# Altium schematic symbol library FT232RL.SchLib: 1 symbol
Pins are listed as number, name and electrical type; pins without a type are passive.

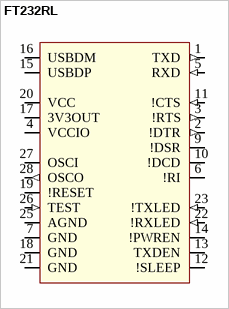
[diagram p0: symbol FT232RL]

## FT232RL
designator IC?  (value not drawn)
Value: *
footprint SSOP28-LD
pins: 1 TXD (out), 2 !DTR (out), 3 !RTS (out), 4 VCCIO (power), 5 RXD (in), 6 !RI, 7 GND (power), 9 !DSR, 10 !DCD, 11 !CTS (in), 12 !SLEEP, 13 TXDEN, 14 !PWREN, 15 USBDP (io), 16 USBDM (io), 17 3V3OUT (power), 18 GND (power), 19 !RESET, 20 VCC (power), 21 GND (power), 22 !RXLED (in), 23 !TXLED (in), 25 AGND (power), 26 TEST (in), 27 OSCI, 28 OSCO (out)